# EAGLE library part SGP41-D-R4 (library SGP41-D-R4)
Air Quality Sensors VOC and NOx (MOX) Gas Pollutant Sensor Source: Datasheet <https://www.sensirion.com/fileadmin/user_upload/customers/sensirion/Dokumente/9_Gas_Sensors/Datasheets/Sensirion_Gas_Sensors_Datasheet_SGP41.pdf>
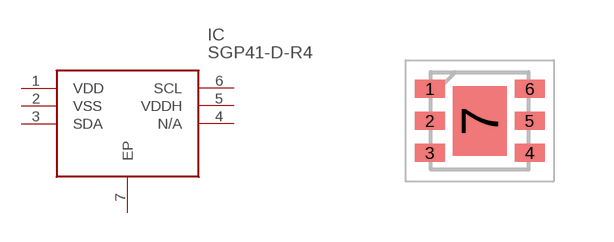
[diagram p0: symbol with the pads of SON80P244X244X95-7N; footprint SON80P244X244X95-7N]

Designator prefix IC

## SGP41-D-R4 (Arrow_Part_Number: SGP41-D-R4; Arrow_Price-Stock: https://www.arrow.com/en/products/sgp41-d-r4/sensirion-ag?utm_currency=USD&region=nac; Description: Air Quality Sensors VOC and NOx (MOX) Gas Pollutant Sensor; Height: 0.95mm; Manufacturer_Name: Sensirion; Manufacturer_Part_Number: SGP41-D-R4; Mouser_Part_Number: 403-SGP41-D-R4; Mouser_Price-Stock: https://www.mouser.co.uk/ProductDetail/Sensirion/SGP41-D-R4?qs=A6eO%252BMLsxmRqwfOE5NYPVA%3D%3D)  [SON80P244X244X95-7N]
1  VDD
2  VSS
3  SDA
4  N/A
5  VDDH
6  SCL
7  EP

## Footprint SON80P244X244X95-7N (pad centres in mm)
DFN6
smd 0.75 x 0.45: 1 -1.25,0.8; 2 -1.25,0; 3 -1.25,-0.8; 4 1.25,-0.8; 5 1.25,0; 6 1.25,0.8
smd 1.35 x 1.74: 7 0,0